# Altium schematic symbol library SCH_Jumper.SchLib: 3 symbols
Pins are listed as number, name and electrical type; pins without a type are passive.

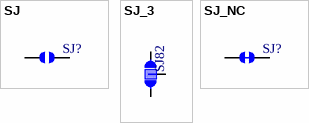
[diagram p0: symbols SJ to SJ_NC]

## SJ
designator SJ?, comment ?  (value not drawn)  (no BOM)
Solder pad jumper; Fitted: Not fitted
footprint SJ_NO
footprint SJ_NO_W80
pins: 1, 2

## SJ_3
designator SJ82, comment SJ  (value not drawn)  (no BOM)
Solder pad jumper; Fitted: Not fitted
footprint SJ_3 (JUMPER PAD)
footprint SJ_3_W63
footprint SJ_3_W50 (JUMPER PAD)
pins: 1, 2 (power), 3

## SJ_NC
designator SJ?, comment ?  (value not drawn)  (net tie, no BOM)
Solder pad jumper; Fitted: Not fitted
footprint SJ_NC
pins: 1, 2